# EAGLE library part GEN_20_EP (library bschulz)
Generic 20 Pin Package for Breakout Boards
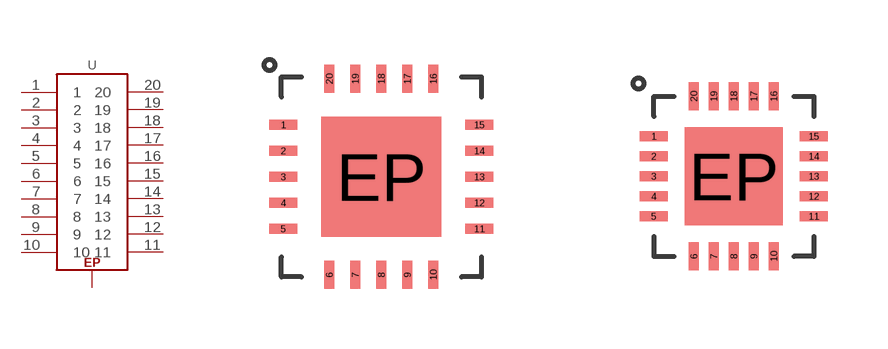
[diagram p168: symbol with the pads of QFN20_5X5; footprints QFN20_5X5, QFN20]

Designator prefix U

## GEN_20_EPQFN-20_5X5  [QFN20_5X5]
1  1
2  2
3  3
4  4
5  5
6  6
7  7
8  8
9  9
10  10
11  11
12  12
13  13
14  14
15  15
16  16
17  17
18  18
19  19
20  20
EP  EP  pas

## GEN_20_EPQFN-20_4X4  [QFN20]
Pads as for QFN20_5X5

## Footprint QFN20_5X5 (pad centres in mm)
QFN, 20 pos, 0.65mm pitch, 5x5mm body
smd 0.7 x 0.25: 1 -2.45,1.3; 2 -2.45,0.65; 3 -2.45,0; 4 -2.45,-0.65; 5 -2.45,-1.3; 11 2.45,-1.3; 12 2.45,-0.65; 13 2.45,0; 14 2.45,0.65; 15 2.45,1.3
smd 0.25 x 0.7: 6 -1.3,-2.45; 7 -0.65,-2.45; 8 0,-2.45; 9 0.65,-2.45; 10 1.3,-2.45; 16 1.3,2.45; 17 0.65,2.45; 18 0,2.45; 19 -0.65,2.45; 20 -1.3,2.45
smd 3 x 3: EP 0,0

## Footprint QFN20 (pad centres in mm)
QFN, 20 pos, 0.5mm pitch, 4x4mm body
smd 0.7 x 0.25: 1 -2.032,0.968; 2 -2.032,0.468; 3 -2.032,-0.032; 4 -2.032,-0.532; 5 -2.032,-1.032; 11 1.968,-1.032; 12 1.968,-0.532; 13 1.968,-0.032; 14 1.968,0.468; 15 1.968,0.968
smd 0.25 x 0.7: 6 -1.032,-2.032; 7 -0.532,-2.032; 8 -0.032,-2.032; 9 0.468,-2.032; 10 0.968,-2.032; 16 0.968,1.968; 17 0.468,1.968; 18 -0.032,1.968; 19 -0.532,1.968; 20 -1.032,1.968
smd 2.45 x 2.45: EP -0.032,-0.032